# Altium schematic symbol library 2TS622A1 OS.Schlib: 1 symbol
Pins are listed as number, name and electrical type; pins without a type are passive.

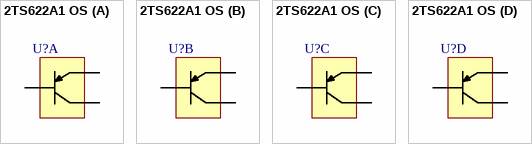
[diagram p0: symbol 2TS622A1 OS]

## 2TS622A1 OS
designator U?, comment 2ТС622А1 OC  (value not drawn)
Назначение: Матрица транзисторная; Наименование: 2ТС622А1 OC
footprint 14PIN FLATPACK
part A pins: 2 База, 13 Эммитер, 14 Коллектор
part B pins: 3 Эммитер, 4 Коллектор, 12 База
part C pins: 5 База, 10 Эммитер, 11 Коллектор
part D pins: 6 Эммитер, 7 Коллектор, 9 База